# Altium footprint library KTW0007B.PcbLib: 1 footprints
Each footprint in its own frame and in the unit in brackets; x right, y up, seen from the top. Pads: shape width x height; smd on the part's side, far side on the other; paste and mask are expansions set on the pad; w line width, h text height; cw(c..) or ccw(c..) is an arc to the next point about the centre after c.
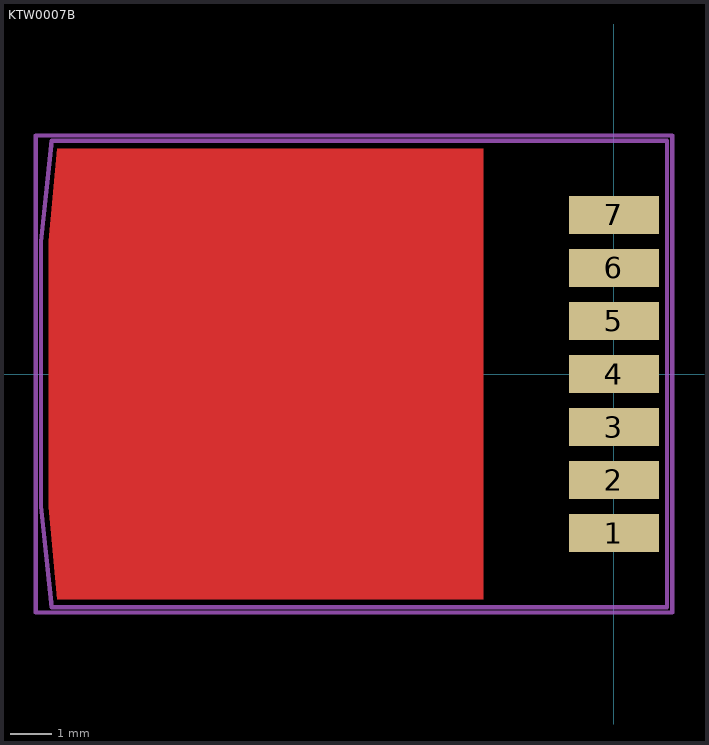
[diagram p0: the footprint, top view; thin cyan lines are the x and y axes]

## KTW0007B [mil]
pads (7):
  rect 85x36 smd: 1(0,-150) 2(0,-100) 3(0,-50) 4(0,0) 5(0,50) 6(0,100) 7(0,150)
Top Layer:
  region: -123,212.5 -123,-212.5 -525,-212.5 -533,-125 -533,125 -525,212.5
Mechanical 13:
  lines w3.94: -540,-125 -530,-220 50,-220 50,220 -530,220 -540,125 -540,-125
Mechanical 15:
  lines w3.94: -265,0 -245,0 ; -245,-20 -245,0 ; -245,20 -245,0 ; -225,0 -245,0 ; -545,-225 -535,-225 55,-225 55,225 -545,225 -545,-225
3D body "SW3dPS-TO263-7-1.STEP": height 189.3, standoff 0.33, extent -580.48,-196.84 36.45,196.86